# Altium schematic symbol library SCHOTTKY-DIODETO92H.Schlib: 1 symbol
Pins are listed as number, name and electrical type; pins without a type are passive.

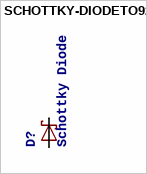
[diagram p0: symbol SCHOTTKY-DIODETO92H]

## SCHOTTKY-DIODETO92H
designator D?, comment Schottky Diode
SPICEMODEL: NONE; SPICEPREFIX: D; SPICETYPE: diode
footprint DIODE_TO92H
pins: 1 C, 2 A